# Altium schematic symbol library SLW-102-01-G-D.Schlib: 1 symbol
Pins are listed as number, name and electrical type; pins without a type are passive.

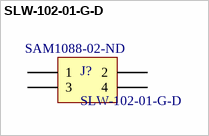
[diagram p0: symbol SLW-102-01-G-D]

## SLW-102-01-G-D
designator J?  Supplier Part Number 1: SAM1088-02-ND
4 pos 100mil pitch low profile header; Supplier 1: Digi-Key
footprint SLW-102-01-X-D (CONN RCPT 4POS 0.1 GOLD PCB)
pins: 1, 2, 3, 4